# EAGLE library part TE0320 (library te0320-01)
Trenz TE0320 Series Xilinx Spartan-3A DSP Industrial-Grade FPGA Micromodule Andre Posch, iFR, 23.12.2009
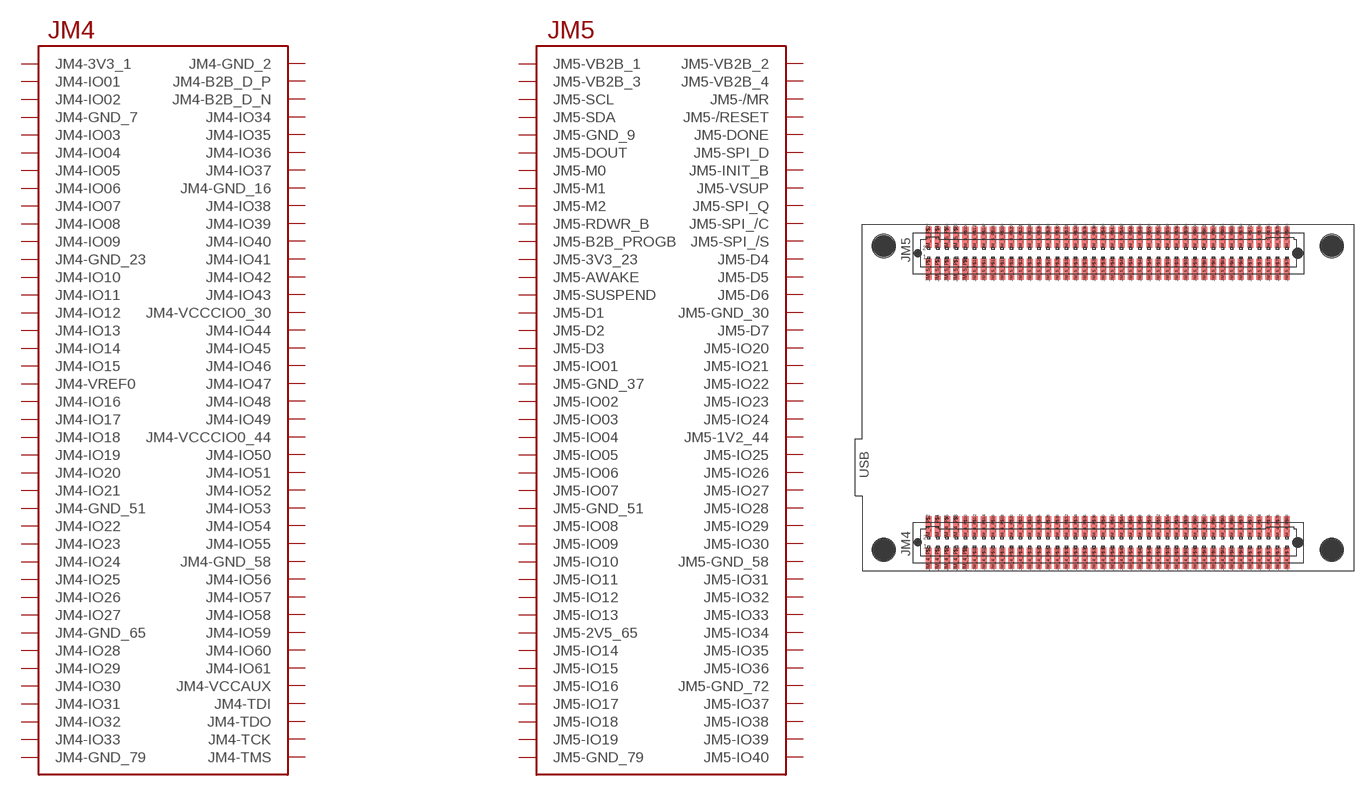
[diagram p0: symbol with the pads of TE0320; footprint TE0320]

Designator prefix -; gates G$1=TE0320_JM4 G$2=TE0320_JM5

## TE0320  [TE0320]
JM_4_P$1  G$1:JM4-3V3_1  pwr
JM_4_P$2  G$1:JM4-GND_2  pwr
JM_4_P$3  G$1:JM4-IO01
JM_4_P$4  G$1:JM4-B2B_D_P
JM_4_P$5  G$1:JM4-IO02
JM_4_P$6  G$1:JM4-B2B_D_N
JM_4_P$7  G$1:JM4-GND_7  pwr
JM_4_P$8  G$1:JM4-IO34
JM_4_P$9  G$1:JM4-IO03
JM_4_P$10  G$1:JM4-IO35
JM_4_P$11  G$1:JM4-IO04
JM_4_P$12  G$1:JM4-IO36
JM_4_P$13  G$1:JM4-IO05
JM_4_P$14  G$1:JM4-IO37
JM_4_P$15  G$1:JM4-IO06
JM_4_P$16  G$1:JM4-GND_16  pwr
JM_4_P$17  G$1:JM4-IO07
JM_4_P$18  G$1:JM4-IO38
JM_4_P$19  G$1:JM4-IO08
JM_4_P$20  G$1:JM4-IO39
JM_4_P$21  G$1:JM4-IO09
JM_4_P$22  G$1:JM4-IO40
JM_4_P$23  G$1:JM4-GND_23  pwr
JM_4_P$24  G$1:JM4-IO41
JM_4_P$25  G$1:JM4-IO10
JM_4_P$26  G$1:JM4-IO42
JM_4_P$27  G$1:JM4-IO11
JM_4_P$28  G$1:JM4-IO43
JM_4_P$29  G$1:JM4-IO12
JM_4_P$30  G$1:JM4-VCCCIO0_30
JM_4_P$31  G$1:JM4-IO13
JM_4_P$32  G$1:JM4-IO44
JM_4_P$33  G$1:JM4-IO14
JM_4_P$34  G$1:JM4-IO45
JM_4_P$35  G$1:JM4-IO15
JM_4_P$36  G$1:JM4-IO46
JM_4_P$37  G$1:JM4-VREF0  in
JM_4_P$38  G$1:JM4-IO47
JM_4_P$39  G$1:JM4-IO16
JM_4_P$40  G$1:JM4-IO48
JM_4_P$41  G$1:JM4-IO17
JM_4_P$42  G$1:JM4-IO49
JM_4_P$43  G$1:JM4-IO18
JM_4_P$44  G$1:JM4-VCCCIO0_44
JM_4_P$45  G$1:JM4-IO19
JM_4_P$46  G$1:JM4-IO50
JM_4_P$47  G$1:JM4-IO20
JM_4_P$48  G$1:JM4-IO51
JM_4_P$49  G$1:JM4-IO21
JM_4_P$50  G$1:JM4-IO52
JM_4_P$51  G$1:JM4-GND_51  pwr
JM_4_P$52  G$1:JM4-IO53
JM_4_P$53  G$1:JM4-IO22
JM_4_P$54  G$1:JM4-IO54
JM_4_P$55  G$1:JM4-IO23
JM_4_P$56  G$1:JM4-IO55
JM_4_P$57  G$1:JM4-IO24
JM_4_P$58  G$1:JM4-GND_58  pwr
JM_4_P$59  G$1:JM4-IO25
JM_4_P$60  G$1:JM4-IO56
JM_4_P$61  G$1:JM4-IO26
JM_4_P$62  G$1:JM4-IO57
JM_4_P$63  G$1:JM4-IO27
JM_4_P$64  G$1:JM4-IO58
JM_4_P$65  G$1:JM4-GND_65  pwr
JM_4_P$66  G$1:JM4-IO59
JM_4_P$67  G$1:JM4-IO28
JM_4_P$68  G$1:JM4-IO60
JM_4_P$69  G$1:JM4-IO29
JM_4_P$70  G$1:JM4-IO61
JM_4_P$71  G$1:JM4-IO30
JM_4_P$72  G$1:JM4-VCCAUX  out
JM_4_P$73  G$1:JM4-IO31
JM_4_P$74  G$1:JM4-TDI  in
JM_4_P$75  G$1:JM4-IO32
JM_4_P$76  G$1:JM4-TDO  out
JM_4_P$77  G$1:JM4-IO33
JM_4_P$78  G$1:JM4-TCK  in
JM_4_P$79  G$1:JM4-GND_79  pwr
JM_4_P$80  G$1:JM4-TMS  in
JM_5_P$1  G$2:JM5-VB2B_1  in
JM_5_P$2  G$2:JM5-VB2B_2  in
JM_5_P$3  G$2:JM5-VB2B_3  in
JM_5_P$4  G$2:JM5-VB2B_4  in
JM_5_P$5  G$2:JM5-SCL
JM_5_P$6  G$2:JM5-/MR  in
JM_5_P$7  G$2:JM5-SDA
JM_5_P$8  G$2:JM5-/RESET  in
JM_5_P$9  G$2:JM5-GND_9  pwr
JM_5_P$10  G$2:JM5-DONE  out
JM_5_P$11  G$2:JM5-DOUT
JM_5_P$12  G$2:JM5-SPI_D
JM_5_P$13  G$2:JM5-M0
JM_5_P$14  G$2:JM5-INIT_B
JM_5_P$15  G$2:JM5-M1
JM_5_P$16  G$2:JM5-VSUP  pwr
JM_5_P$17  G$2:JM5-M2
JM_5_P$18  G$2:JM5-SPI_Q
JM_5_P$19  G$2:JM5-RDWR_B
JM_5_P$20  G$2:JM5-SPI_/S
JM_5_P$21  G$2:JM5-B2B_PROGB  in
JM_5_P$22  G$2:JM5-SPI_/C
JM_5_P$23  G$2:JM5-3V3_23  pwr
JM_5_P$24  G$2:JM5-D4
JM_5_P$25  G$2:JM5-AWAKE
JM_5_P$26  G$2:JM5-D5
JM_5_P$27  G$2:JM5-SUSPEND  in
JM_5_P$28  G$2:JM5-D6
JM_5_P$29  G$2:JM5-D1
JM_5_P$30  G$2:JM5-GND_30  pwr
JM_5_P$31  G$2:JM5-D2
JM_5_P$32  G$2:JM5-D7
JM_5_P$33  G$2:JM5-D3
JM_5_P$34  G$2:JM5-IO20
JM_5_P$35  G$2:JM5-IO01
JM_5_P$36  G$2:JM5-IO21
JM_5_P$37  G$2:JM5-GND_37  pwr
JM_5_P$38  G$2:JM5-IO22
JM_5_P$39  G$2:JM5-IO02
JM_5_P$40  G$2:JM5-IO23
JM_5_P$41  G$2:JM5-IO03
JM_5_P$42  G$2:JM5-IO24
JM_5_P$43  G$2:JM5-IO04
JM_5_P$44  G$2:JM5-1V2_44  pwr
JM_5_P$45  G$2:JM5-IO05
JM_5_P$46  G$2:JM5-IO25
JM_5_P$47  G$2:JM5-IO06
JM_5_P$48  G$2:JM5-IO26
JM_5_P$49  G$2:JM5-IO07
JM_5_P$50  G$2:JM5-IO27
JM_5_P$51  G$2:JM5-GND_51  pwr
JM_5_P$52  G$2:JM5-IO28
JM_5_P$53  G$2:JM5-IO08
JM_5_P$54  G$2:JM5-IO29
JM_5_P$55  G$2:JM5-IO09
JM_5_P$56  G$2:JM5-IO30
JM_5_P$57  G$2:JM5-IO10
JM_5_P$58  G$2:JM5-GND_58  pwr
JM_5_P$59  G$2:JM5-IO11
JM_5_P$60  G$2:JM5-IO31
JM_5_P$61  G$2:JM5-IO12
JM_5_P$62  G$2:JM5-IO32
JM_5_P$63  G$2:JM5-IO13
JM_5_P$64  G$2:JM5-IO33
JM_5_P$65  G$2:JM5-2V5_65  pwr
JM_5_P$66  G$2:JM5-IO34
JM_5_P$67  G$2:JM5-IO14
JM_5_P$68  G$2:JM5-IO35
JM_5_P$69  G$2:JM5-IO15
JM_5_P$70  G$2:JM5-IO36
JM_5_P$71  G$2:JM5-IO16
JM_5_P$72  G$2:JM5-GND_72  pwr
JM_5_P$73  G$2:JM5-IO17
JM_5_P$74  G$2:JM5-IO37
JM_5_P$75  G$2:JM5-IO18
JM_5_P$76  G$2:JM5-IO38
JM_5_P$77  G$2:JM5-IO19
JM_5_P$78  G$2:JM5-IO39
JM_5_P$79  G$2:JM5-GND_79  pwr
JM_5_P$80  G$2:JM5-IO40

## Footprint TE0320 (pad centres in mm)
smd 0.85 x 2.9: JM_4_P$1 -8.89,-42.2; JM_4_P$2 -8.89,-37.8; JM_4_P$3 -7.62,-42.2; JM_4_P$4 -7.62,-37.8; JM_4_P$5 -6.35,-42.2; JM_4_P$6 -6.35,-37.8; JM_4_P$7 -5.08,-42.2; JM_4_P$8 -5.08,-37.8; JM_4_P$9 -3.81,-42.2; JM_4_P$10 -3.81,-37.8; JM_4_P$11 -2.54,-42.2; JM_4_P$12 -2.54,-37.8; JM_4_P$13 -1.27,-42.2; JM_4_P$14 -1.27,-37.8; JM_4_P$15 0,-42.2; JM_4_P$16 0,-37.8; JM_4_P$17 1.27,-42.2; JM_4_P$18 1.27,-37.8; JM_4_P$19 2.54,-42.2; JM_4_P$20 2.54,-37.8; JM_4_P$21 3.81,-42.2; JM_4_P$22 3.81,-37.8; JM_4_P$23 5.08,-42.2; JM_4_P$24 5.08,-37.8; JM_4_P$25 6.35,-42.2; JM_4_P$26 6.35,-37.8; JM_4_P$27 7.62,-42.2; JM_4_P$28 7.62,-37.8; JM_4_P$29 8.89,-42.2; JM_4_P$30 8.89,-37.8; JM_4_P$31 10.16,-42.2; JM_4_P$32 10.16,-37.8; JM_4_P$33 11.43,-42.2; JM_4_P$34 11.43,-37.8; JM_4_P$35 12.7,-42.2; JM_4_P$36 12.7,-37.8; JM_4_P$37 13.97,-42.2; JM_4_P$38 13.97,-37.8; JM_4_P$39 15.24,-42.2; JM_4_P$40 15.24,-37.8; JM_4_P$41 16.51,-42.2; JM_4_P$42 16.51,-37.8; JM_4_P$43 17.78,-42.2; JM_4_P$44 17.78,-37.8; JM_4_P$45 19.05,-42.2; JM_4_P$46 19.05,-37.8; JM_4_P$47 20.32,-42.2; JM_4_P$48 20.32,-37.8; JM_4_P$49 21.59,-42.2; JM_4_P$50 21.59,-37.8; JM_4_P$51 22.86,-42.2; JM_4_P$52 22.86,-37.8; JM_4_P$53 24.13,-42.2; JM_4_P$54 24.13,-37.8; JM_4_P$55 25.4,-42.2; JM_4_P$56 25.4,-37.8; JM_4_P$57 26.67,-42.2; JM_4_P$58 26.67,-37.8; JM_4_P$59 27.94,-42.2; JM_4_P$60 27.94,-37.8; JM_4_P$61 29.21,-42.2; JM_4_P$62 29.21,-37.8; JM_4_P$63 30.48,-42.2; JM_4_P$64 30.48,-37.8; JM_4_P$65 31.75,-42.2; JM_4_P$66 31.75,-37.8; JM_4_P$67 33.02,-42.2; JM_4_P$68 33.02,-37.8; JM_4_P$69 34.29,-42.2; JM_4_P$70 34.29,-37.8; JM_4_P$71 35.56,-42.2; JM_4_P$72 35.56,-37.8; JM_4_P$73 36.83,-42.2; JM_4_P$74 36.83,-37.8; JM_4_P$75 38.1,-42.2; JM_4_P$76 38.1,-37.8; JM_4_P$77 39.37,-42.2; JM_4_P$78 39.37,-37.8; JM_4_P$79 40.64,-42.2; JM_4_P$80 40.64,-37.8; JM_5_P$1 -8.89,-2.2; JM_5_P$2 -8.89,2.2; JM_5_P$3 -7.62,-2.2; JM_5_P$4 -7.62,2.2; JM_5_P$5 -6.35,-2.2; JM_5_P$6 -6.35,2.2; JM_5_P$7 -5.08,-2.2; JM_5_P$8 -5.08,2.2; JM_5_P$9 -3.81,-2.2; JM_5_P$10 -3.81,2.2; JM_5_P$11 -2.54,-2.2; JM_5_P$12 -2.54,2.2; JM_5_P$13 -1.27,-2.2; JM_5_P$14 -1.27,2.2; JM_5_P$15 0,-2.2; JM_5_P$16 0,2.2; JM_5_P$17 1.27,-2.2; JM_5_P$18 1.27,2.2; JM_5_P$19 2.54,-2.2; JM_5_P$20 2.54,2.2; JM_5_P$21 3.81,-2.2; JM_5_P$22 3.81,2.2; JM_5_P$23 5.08,-2.2; JM_5_P$24 5.08,2.2; JM_5_P$25 6.35,-2.2; JM_5_P$26 6.35,2.2; JM_5_P$27 7.62,-2.2; JM_5_P$28 7.62,2.2; JM_5_P$29 8.89,-2.2; JM_5_P$30 8.89,2.2; JM_5_P$31 10.16,-2.2; JM_5_P$32 10.16,2.2; JM_5_P$33 11.442,-2.205; JM_5_P$34 11.43,2.19; JM_5_P$35 12.7,-2.2; JM_5_P$36 12.7,2.19; JM_5_P$37 13.97,-2.2; JM_5_P$38 13.97,2.2; JM_5_P$39 15.24,-2.2; JM_5_P$40 15.24,2.2; JM_5_P$41 16.51,-2.2; JM_5_P$42 16.51,2.2; JM_5_P$43 17.78,-2.2; JM_5_P$44 17.78,2.2; JM_5_P$45 19.05,-2.2; JM_5_P$46 19.05,2.2; JM_5_P$47 20.32,-2.2; JM_5_P$48 20.32,2.2; JM_5_P$49 21.59,-2.2; JM_5_P$50 21.59,2.2; JM_5_P$51 22.86,-2.2; JM_5_P$52 22.86,2.2; JM_5_P$53 24.13,-2.2; JM_5_P$54 24.13,2.2; JM_5_P$55 25.4,-2.2; JM_5_P$56 25.4,2.2; JM_5_P$57 26.67,-2.2; JM_5_P$58 26.67,2.2; JM_5_P$59 27.94,-2.2; JM_5_P$60 27.94,2.2; JM_5_P$61 29.21,-2.2; JM_5_P$62 29.21,2.2; JM_5_P$63 30.48,-2.2; JM_5_P$64 30.48,2.2; JM_5_P$65 31.75,-2.2; JM_5_P$66 31.75,2.2; JM_5_P$67 33.02,-2.2; JM_5_P$68 33.02,2.2; JM_5_P$69 34.29,-2.2; JM_5_P$70 34.29,2.2; JM_5_P$71 35.56,-2.2; JM_5_P$72 35.56,2.2; JM_5_P$73 36.83,-2.2; JM_5_P$74 36.83,2.2; JM_5_P$75 38.1,-2.2; JM_5_P$76 38.1,2.2; JM_5_P$77 39.37,-2.2; JM_5_P$78 39.37,2.2; JM_5_P$79 40.64,-2.2; JM_5_P$80 40.64,2.2
hole 3.2 at -15.126,1
hole 3.2 at 46.874,1
hole 3.2 at -15.126,-40.999
hole 3.2 at 46.874,-40.999
hole 0.95 at -10.415,0
hole 1.35 at 42.165,0
hole 0.95 at -10.415,-40
hole 1.35 at 42.165,-40